# Altium footprint library Footprints.PcbLib: 9 footprints
Each footprint in its own frame and in the unit in brackets; x right, y up, seen from the top. Pads: shape width x height; smd on the part's side, far side on the other; paste and mask are expansions set on the pad; w line width, h text height; cw(c..) or ccw(c..) is an arc to the next point about the centre after c.
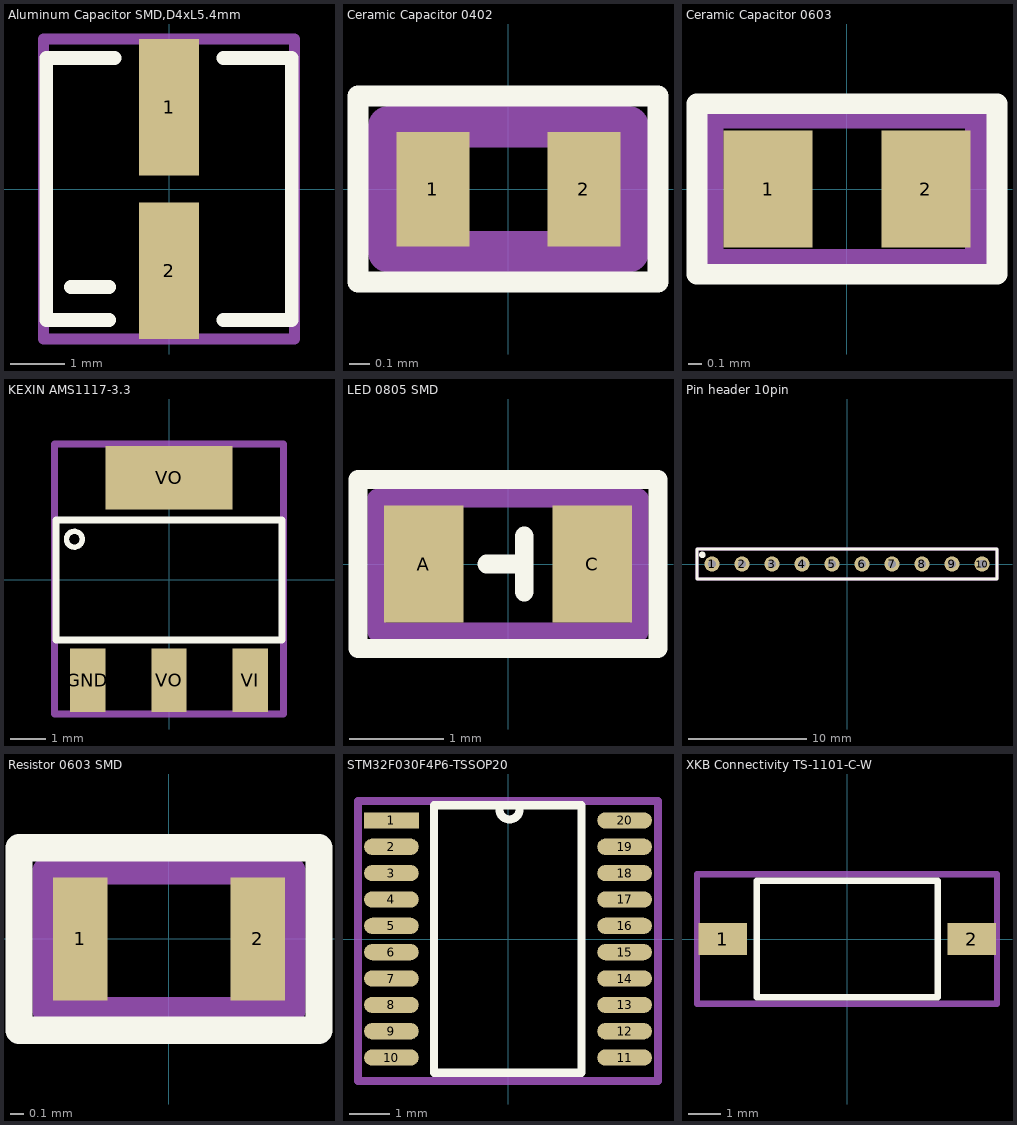
[diagram p0: the footprints below, top view; thin cyan lines are the x and y axes]

## Aluminum Capacitor SMD,D4xL5.4mm [mm]
pads (2):
  rect 1.1x2.5 smd: 1(0,1.5) 2(0,-1.5)
Top Overlay:
  lines w0.254: -2.25,-2.4 -2.25,2.4 -1,2.4 ; 1,2.4 2.25,2.4 2.25,-2.4
  lines w0.256: -2.25,-2.4 -1.1,-2.4 ; -1.8,-1.8 -1.1,-1.8 ; 1,-2.4 2.25,-2.4
Mechanical 29:
  lines w0.2: -2.3,-2.75 2.3,-2.75 2.3,2.75 -0.25,2.75 -2.3,2.75 -2.3,-2.75
3D body "CAP_Al_SMD_4x5_4mm.step": height 5.4, standoff 0, extent -2.15,-2.45 2.15,2.45

## Ceramic Capacitor 0402 [mm]
pads (2):
  rect 0.35x0.55 smd: 1(-0.362,0) 2(0.363,0)
Top Overlay:
  lines w0.1: -0.723,-0.446 -0.723,0.449 0.718,0.449 0.718,-0.446 -0.723,-0.446
Mechanical 29:
  lines w0.2: -0.575,-0.3 -0.575,0.3 0.575,0.3 0.575,-0.3 -0.575,-0.3
  text ".Designator" at -0.55,-0.183 h0.5
3D body "0402 Capacitor.step": height 0.35, standoff 0, extent -0.5,-0.25 0.5,0.25

## Ceramic Capacitor 0603 [mm]
pads (2):
  rect 0.65x0.85 smd: 1(-0.575,0) 2(0.575,0)
Top Overlay:
  lines w0.15: -1.094,-0.621 1.094,-0.621 1.094,0.621 -1.094,0.621 -1.094,-0.621
Mechanical 29:
  lines w0.2: -1,-0.537 -1,0.543 0.961,0.543 0.961,-0.537 -1,-0.537
  text ".Designator" at -0.9,-0.233 h0.5
3D body "0603 Capacitor.step": height 0.8, standoff 0, extent -0.8,-0.4 0.8,0.4

## KEXIN AMS1117-3.3 [mm]
pads (4):
  rect 1x1.8 smd: GND(-2.3,-2.85) VI(2.3,-2.85) VO(0,-2.85)
  rect 3.6x1.8 smd: VO(0,2.9)
Top Overlay:
  circle w0.15: c-2.681,1.152 r0.224
  lines w0.2: -3.2,-1.7 3.2,-1.7 3.2,1.7 -3.2,1.7 -3.2,-1.7
Mechanical 29:
  lines w0.2: -3.25,-3.8 -3.25,3.85 3.25,3.85 3.25,-3.8 -3.25,-3.8
  text ".Designator" at -3.146,-0.746 h1.5
3D body "AMS1117-3.3.STEP": height 1.8, standoff 0, extent -3.251,-3.499 3.251,3.499

## LED 0805 SMD [mm]
pads (2):
  rect 0.85x1.25 smd: A(-0.9,0) C(0.9,0)
Top Overlay:
  lines w0.2: -0.228,0 0.172,0 0.172,0.3 0.172,-0.3 ; -1.6,-0.9 1.6,-0.9 1.6,0.9 -1.6,0.9 -1.6,-0.9
Mechanical 29:
  lines w0.2: -1.4,-0.725 1.4,-0.725 1.4,0.7 -1.4,0.7 -1.4,-0.725
  text ".Designator" at -1.15,-0.183 h0.5
3D body "LED 0805.step": height 1.1, standoff -0.01, extent -1,-0.625 1,0.625

## Pin header 10pin [mm]
pads (10):
  round 1.3 hole 0.7: 1(-11.43,0) 2(-8.89,0) 3(-6.35,0) 4(-3.81,0) 5(-1.27,0) 6(1.27,0) 7(3.81,0) 8(6.35,0) 9(8.89,0) 10(11.43,0)
Top Overlay:
  circle w0.5: c-12.24,0.775 r0.025
  lines w0.254: -12.7,-1.27 12.7,-1.27 12.7,1.27 -12.7,1.27 -12.7,-1.27
Mechanical 29:
  lines w0.254: -12.7,-1.27 -12.7,1.27 12.7,1.27 12.7,-1.27 -12.7,-1.27
  text ".Designator" at -3.45,-0.342 h1
3D body "10 Pin header.stp": height 8.6, standoff -3.08, extent -12.7,-1.27 12.7,1.27

## Resistor 0603 SMD [mm]
pads (2):
  rect 0.4x0.9 smd: 1(-0.65,0) 2(0.65,0)
Top Overlay:
  lines w0.2: -1.1,-0.67 1.1,-0.67 1.1,0.669 -1.1,0.669 -1.1,-0.67
Mechanical 1:
  text ".Designator" at -0.75,-0.183 h0.5
Mechanical 29:
  lines w0.2: -0.9,-0.525 0.9,-0.525 0.9,0.5 -0.9,0.5 -0.9,-0.525
3D body "RC0603.STEP": height 0.55, standoff 0, extent -0.8,-0.4 0.8,0.4

## STM32F030F4P6-TSSOP20 [mm]
pads (20):
  rect 1.35x0.4 smd mask+0.072: 1(-2.875,2.925)
  oval 1.35x0.4 smd mask+0.072: 2(-2.875,2.275) 3(-2.875,1.625) 4(-2.875,0.975) 5(-2.875,0.325) 6(-2.875,-0.325) 7(-2.875,-0.975) 8(-2.875,-1.625) 9(-2.875,-2.275) 10(-2.875,-2.925) 11(2.875,-2.925) 12(2.875,-2.275) 13(2.875,-1.625) 14(2.875,-0.975) 15(2.875,-0.325) 16(2.875,0.325) 17(2.875,0.975) 18(2.875,1.625) 19(2.875,2.275) 20(2.875,2.925)
Top Overlay:
  lines w0.2: -0.212,3.2 ccw(c0.038,3.2) 0.288,3.2 ; -1.824,-3.3 1.818,-3.3 1.818,3.3 -1.824,3.3 -1.824,-3.3
Mechanical 29:
  lines w0.2: -3.7,-3.5 3.7,-3.5 3.7,3.4 -3.7,3.4 -3.7,-3.5
  text ".Designator" at -3.346,-0.738 h1.52
3D body "STM32F030F4P6-TSSOP20.step": height 1.2, standoff 0, extent -3.302,-3.302 3.302,3.302

## XKB Connectivity TS-1101-C-W [mm]
pads (2):
  rect 1.5x1 smd: 1(-3.85,0) 2(3.85,0)
Top Overlay:
  lines w0.2: -2.8,-1.8 -2.8,1.8 2.8,1.8 2.8,-1.8 -2.8,-1.8
Mechanical 29:
  lines w0.2: -4.65,-2 4.625,-2 4.625,2 -4.65,2 -4.65,-2
  text ".Designator" at -4.221,-0.671 h1.5
3D body "Switch SPST SMD.stp": height 2.5, standoff 0, extent -4,-1.8 4,1.8